# EAGLE library part SRAM (library BaseApp)
SRAM :-R1LV0808ASB-5SI http://www.digikey.com/scripts/dksearch/dksus.dll?vendor=0&keywords=R1LV0808ASB-5SI
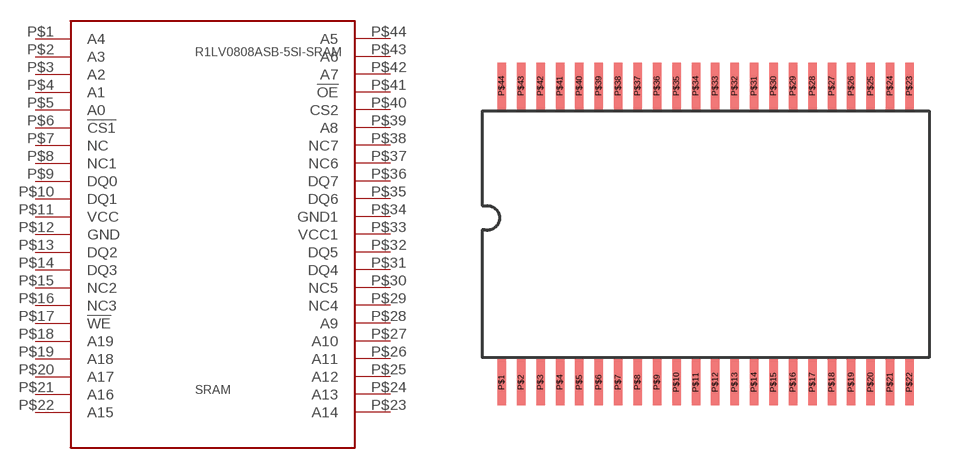
[diagram p4: symbol with the pads of 44TSOP; footprint 44TSOP]

Designator prefix R1LV0808ASB-5SI-SRAM

## SRAM  [44TSOP]
P$1  A4
P$2  A3
P$3  A2
P$4  A1
P$5  A0
P$6  !CS1
P$7  NC  nc
P$8  NC1  nc
P$9  DQ0
P$10  DQ1
P$11  VCC
P$12  GND
P$13  DQ2
P$14  DQ3
P$15  NC2
P$16  NC3
P$17  !WE
P$18  A19
P$19  A18
P$20  A17
P$21  A16
P$22  A15
P$23  A14
P$24  A13
P$25  A12
P$26  A11
P$27  A10
P$28  A9
P$29  NC4
P$30  NC5
P$31  DQ4
P$32  DQ5
P$33  VCC1
P$34  GND1
P$35  DQ6
P$36  DQ7
P$37  NC6
P$38  NC7
P$39  A8
P$40  CS2
P$41  !OE
P$42  A7
P$43  A6
P$44  A5

## Footprint 44TSOP (pad centres in mm)
smd 0.35 x 1.9: P$1 -8.085,-6.1; P$2 -7.285,-6.1; P$3 -6.485,-6.1; P$4 -5.685,-6.1; P$5 -4.885,-6.1; P$6 -4.085,-6.1; P$7 -3.285,-6.1; P$8 -2.485,-6.1; P$9 -1.685,-6.1; P$10 -0.885,-6.1; P$11 -0.085,-6.1; P$12 0.715,-6.1; P$13 1.515,-6.1; P$14 2.315,-6.1; P$15 3.115,-6.1; P$16 3.915,-6.1; P$17 4.715,-6.1; P$18 5.515,-6.1; P$19 6.315,-6.1; P$20 7.115,-6.1; P$21 7.915,-6.1; P$22 8.715,-6.1; P$23 8.715,6.1; P$24 7.915,6.1; P$25 7.115,6.1; P$26 6.315,6.1; P$27 5.515,6.1; P$28 4.715,6.1; P$29 3.915,6.1; P$30 3.115,6.1; P$31 2.315,6.1; P$32 1.515,6.1; P$33 0.715,6.1; P$34 -0.085,6.1; P$35 -0.885,6.1; P$36 -1.685,6.1; P$37 -2.485,6.1; P$38 -3.285,6.1; P$39 -4.085,6.1; P$40 -4.885,6.1; P$41 -5.685,6.1; P$42 -6.485,6.1; P$43 -7.285,6.1; P$44 -8.085,6.1